# EAGLE library part STECKVERBINDER_MIT_KENNZEICHNUNG_DES_SCHUTZLEITERANSCHLUSSES_3-POL (library e-steckverbinder)
Steckverbinder mit Kennzeichnung des Schutzleiteranschlusses
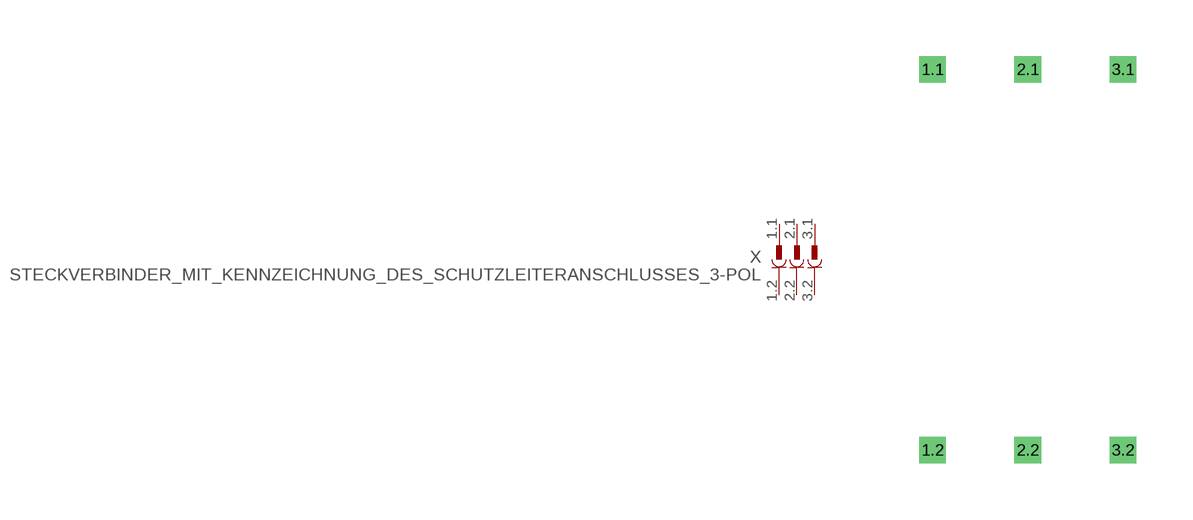
[diagram p1: symbol with the pads of STECKVERBINDER-MIT-KENNZEICHNUNG-DES-SCHUTZLEITERANSCHLUSSES; footprint STECKVERBINDER-MIT-KENNZEICHNUNG-DES-SCHUTZLEITERANSCHLUSSES]

Designator prefix X

## STECKVERBINDER_MIT_KENNZEICHNUNG_DES_SCHUTZLEITERANSCHLUSSES_3-POL  [STECKVERBINDER-MIT-KENNZEICHNUNG-DES-SCHUTZLEITERANSCHLUSSES]
1.1  1.1  pas
1.2  1.2  pas
2.1  2.1  pas
2.2  2.2  pas
3.1  3.1  pas
3.2  3.2  pas

## Footprint STECKVERBINDER-MIT-KENNZEICHNUNG-DES-SCHUTZLEITERANSCHLUSSES (pad centres in mm)
Dummy
drill 0.2 pad 0.6 square: 1.1 -2.54,5.08; 1.2 -2.54,-5.08; 2.1 0,5.08; 2.2 0,-5.08; 3.1 2.54,5.08; 3.2 2.54,-5.08